# Altium footprint library PCB - DIODES - VISHAY SMP DO-220AA.PcbLib: 1 footprints
Each footprint in its own frame and in the unit in brackets; x right, y up, seen from the top. Pads: shape width x height; smd on the part's side, far side on the other; paste and mask are expansions set on the pad; w line width, h text height; cw(c..) or ccw(c..) is an arc to the next point about the centre after c.
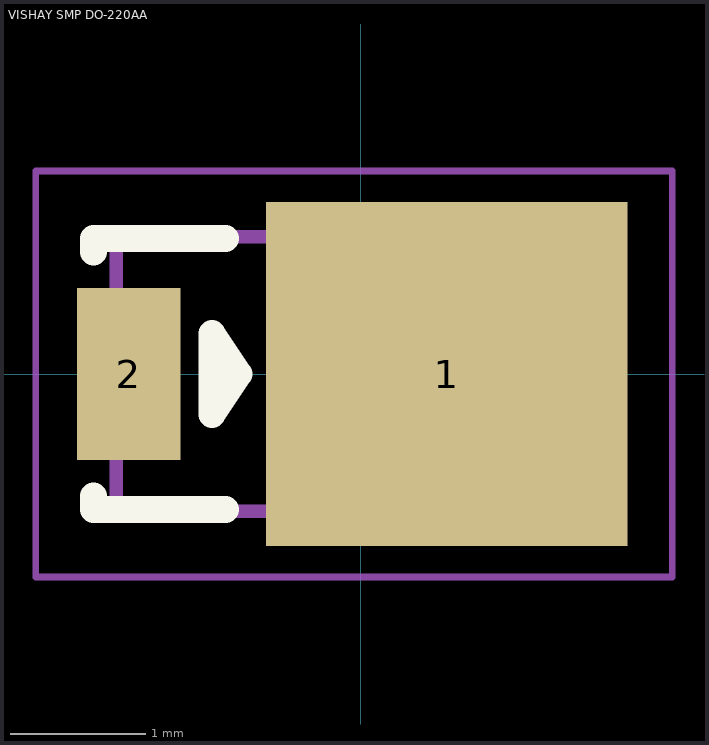
[diagram p0: the footprint, top view; thin cyan lines are the x and y axes]

## VISHAY SMP DO-220AA [mil] "Molded Diode, 2-Leads, Body 3.40x2.03mm, IPC Medium Density"
height 70.87
pads (2):
  rect 105.12x100 smd: 1(25.06,0)
  rect 30x50 smd: 2(-67.48,0)
Top Overlay:
  lines w7.87: -77.76,-35.43 -77.76,-39.37 -39.37,-39.37 ; -77.76,35.43 -77.76,39.37 -39.37,39.37 ; -43.31,-11.81 -43.31,11.81 -35.43,0 -43.31,-11.81
Mechanical 13:
  rectangle: 51.95,-40.35 71.06,40.35
  lines w3.94: -71.06,-39.96 71.06,-39.96 71.06,39.96 -71.06,39.96 -71.06,-39.96
Mechanical 15:
  lines w1.97: -94.49,-59.06 -94.49,59.06 90.55,59.06 90.55,-59.06 -94.49,-59.06
  lines w3.94: -19.68,0 19.69,0 ; 0,-19.68 0,19.69
3D body "Vishay SMP.STEP": height 39.37, standoff 0, extent -77.76,-39.96 73.82,39.96